# EAGLE library part SGA3563Z (library Neel)
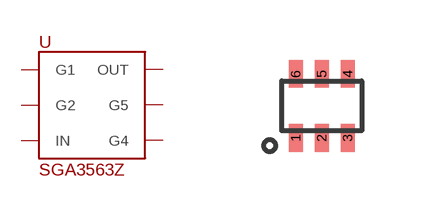
[diagram p45: symbol with the pads of SOT-363; footprint SOT-363]

Designator prefix -

## SGA3563Z  [SOT-363]
1  G1
2  G2
3  IN
4  G4
5  G5
6  OUT

## Footprint SOT-363 (pad centres in mm)
smd 0.35 x 0.7: 1 -0.65,-0.8; 2 0,-0.8; 3 0.65,-0.8; 4 0.65,0.8; 5 0,0.8; 6 -0.65,0.8